# Altium footprint library connectors.PcbLib: 143 footprints (part 6 of 9)
Each footprint in its own frame and in the unit in brackets; x right, y up, seen from the top. Pads: shape width x height; smd on the part's side, far side on the other; paste and mask are expansions set on the pad; w line width, h text height; cw(c..) or ccw(c..) is an arc to the next point about the centre after c.
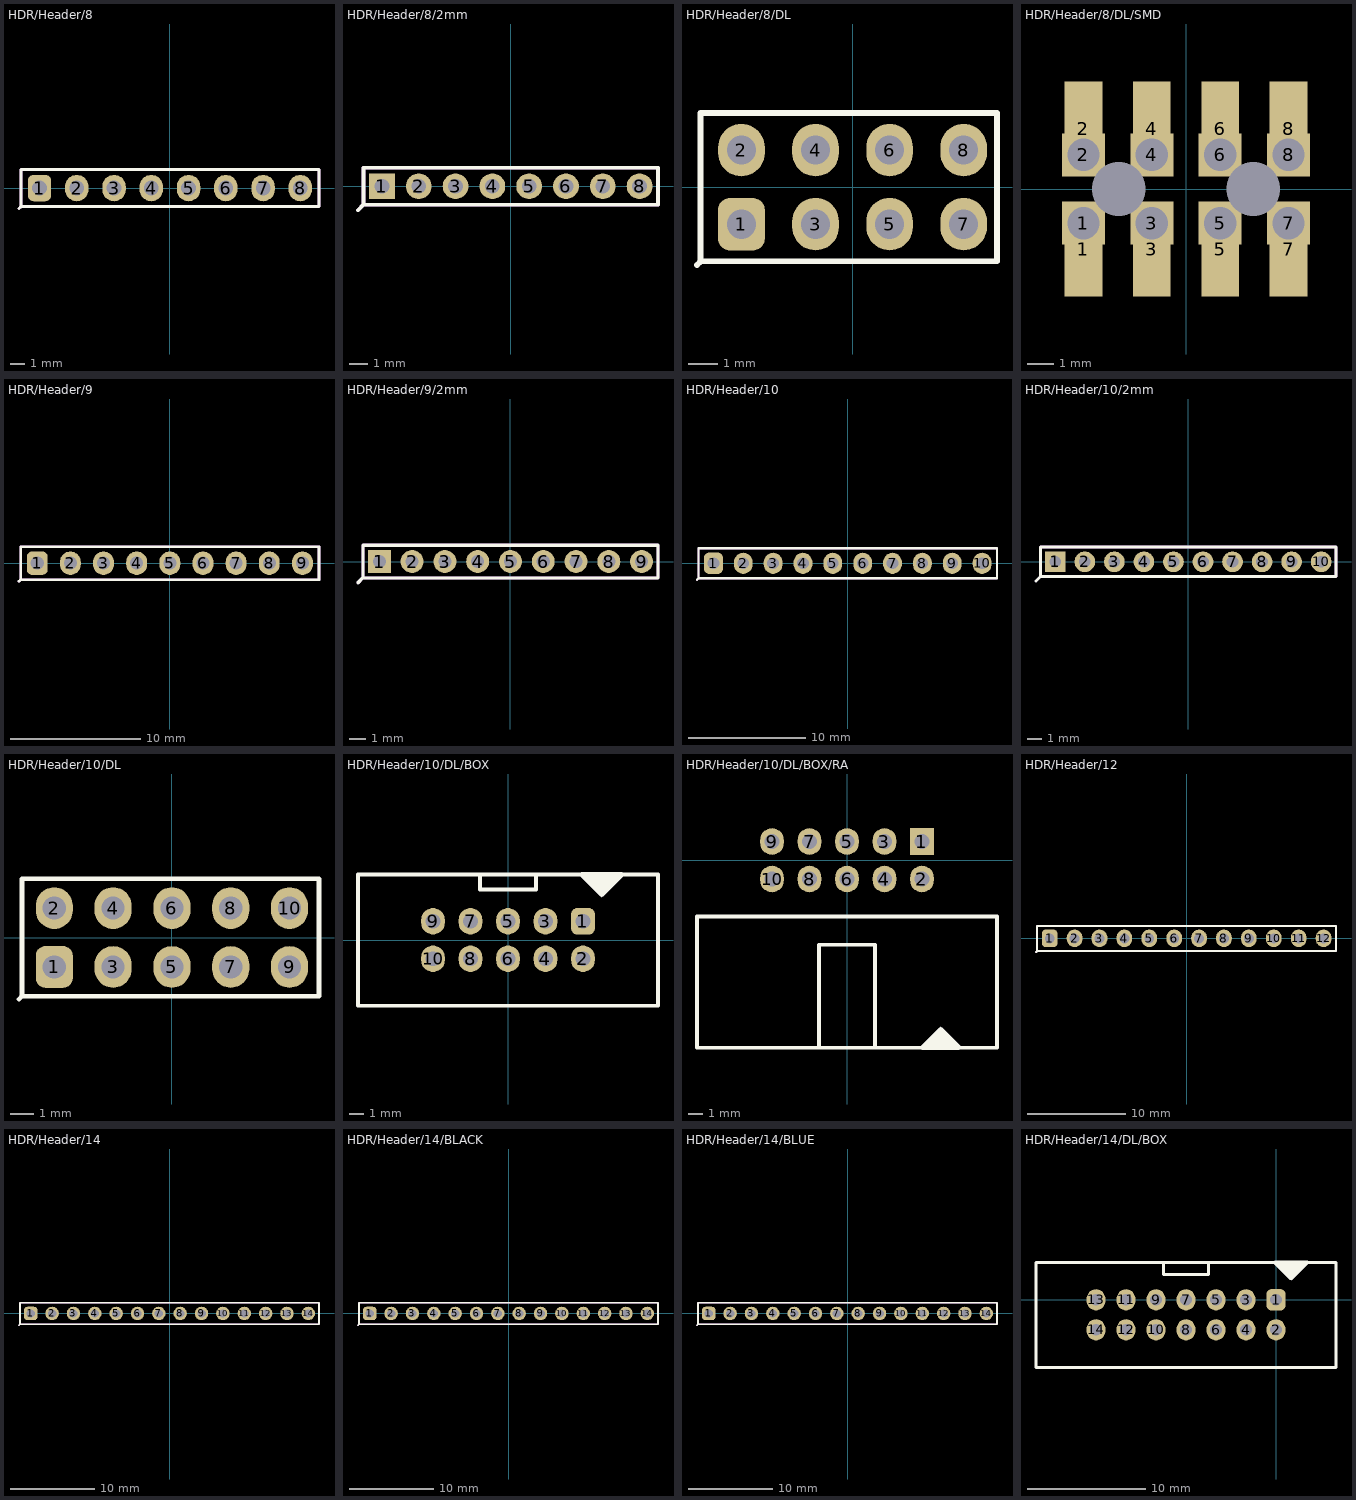
[diagram p5: the footprints below, top view; thin cyan lines are the x and y axes]

## HDR/Header/8 [mm]
pads (8):
  rrect50% 1.6x1.8 hole 1: 1(-8.89,0)
  oval 1.6x1.8 hole 1: 2(-6.35,0) 3(-3.81,0) 4(-1.27,0) 5(1.27,0) 6(3.81,0) 7(6.35,0) 8(8.89,0)
Top Overlay:
  lines w0.203: -10.287,-1.397 -10.16,-1.27 ; -10.16,-1.27 -10.16,1.27 10.16,1.27 10.16,-1.27 -10.16,-1.27
Mechanical 1:
  lines w0.203: -10.287,-1.397 -10.16,-1.27 ; -10.16,-1.27 -10.16,1.27 10.16,1.27 10.16,-1.27 -10.16,-1.27
3D body "Samtec Header 4pin 2.54mm.STEP": height 8.89, standoff -2.03, extent -10.16,-1.27 0,1.27
3D body "Samtec Header 4pin 2.54mm.STEP": height 8.89, standoff -2.03, extent 0,-1.27 10.16,1.27

## HDR/Header/8/2mm [mm]
pads (8):
  rect 1.4x1.4 hole 0.8: 1(-7,0)
  round 1.4 hole 0.8: 2(-5,0) 3(-3,0) 4(-1,0) 5(1,0) 6(3,0) 7(5,0) 8(7,0)
Top Overlay:
  lines w0.203: -8.3,-1.3 -8,-1 ; -8,-1 -8,1 8,1 8,-1 -8,-1
Mechanical 1:
  lines w0.203: -8.3,-1.3 -8,-1 ; -8,-1 -8,1 8,1 8,-1 -8,-1
3D body "pin_header_a-sl200-eg-g08d.stp": height 6, standoff -2.8, extent -7.975,-1 7.975,1

## HDR/Header/8/DL [mm]
pads (8):
  rrect50% 1.6x1.8 hole 1: 1(-3.81,-1.27)
  oval 1.6x1.8 hole 1: 2(-3.81,1.27) 3(-1.27,-1.27) 4(-1.27,1.27) 5(1.27,-1.27) 6(1.27,1.27) 7(3.81,-1.27) 8(3.81,1.27)
Top Overlay:
  lines w0.203: -5.334,-2.667 -5.207,-2.54 ; -5.207,-2.54 4.953,-2.54 4.953,2.54 -5.207,2.54 -5.207,-2.54
3D body "Samtec Header 4pin 2.54mm.STEP": height 8.89, standoff -2.03, extent -5.08,-2.54 5.08,0
3D body "Samtec Header 4pin 2.54mm.STEP": height 8.89, standoff -2.03, extent -5.08,0 5.08,2.54

## HDR/Header/8/DL/SMD [mm]
pads (18):
  rect 1.4x3.53 smd: 1(-3.81,-2.235) 2(-3.81,2.235) 3(-1.27,-2.235) 4(-1.27,2.235) 5(1.27,-2.235) 6(1.27,2.235) 7(3.81,-2.235) 8(3.81,2.235)
  rect 1.6x1.6 hole 1.2: 1(-3.81,-1.27) 2(-3.81,1.27) 3(-1.27,-1.27) 4(-1.27,1.27) 5(1.27,-1.27) 6(1.27,1.27) 7(3.81,-1.27) 8(3.81,1.27)
  round 0 hole 2 unplated: HOLE(-2.5,0) HOLE(2.5,0)
3D body "Header4x2.STEP": height 8.5, standoff 0, extent -5.28,-2.5 5.28,2.5

## HDR/Header/9 [mm]
pads (9):
  rrect50% 1.6x1.8 hole 1: 1(-10.16,0)
  oval 1.6x1.8 hole 1: 2(-7.62,0) 3(-5.08,0) 4(-2.54,0) 5(0,0) 6(2.54,0) 7(5.08,0) 8(7.62,0) 9(10.16,0)
Top Overlay:
  lines w0.203: -11.557,-1.397 -11.43,-1.27 ; -11.43,-1.27 -11.43,1.27 11.43,1.27 11.43,-1.27 -11.43,-1.27
Mechanical 1:
  lines w0.203: -11.557,-1.397 -11.43,-1.27 ; -11.43,-1.27 -11.43,1.27 11.43,1.27 11.43,-1.27 -11.43,-1.27
3D body "Samtec Header 3pin 2.54mm.STEP": height 8.89, standoff -2.03, extent 3.81,-1.27 11.43,1.27
3D body "Samtec Header 3pin 2.54mm.STEP": height 8.89, standoff -2.03, extent -3.81,-1.27 3.81,1.27
3D body "Samtec Header 3pin 2.54mm.STEP": height 8.89, standoff -2.03, extent -11.43,-1.27 -3.81,1.27

## HDR/Header/9/2mm [mm]
pads (9):
  rect 1.4x1.4 hole 0.8: 1(-8,0)
  round 1.4 hole 0.8: 2(-6,0) 3(-4,0) 4(-2,0) 5(0,0) 6(2,0) 7(4,0) 8(6,0) 9(8,0)
Top Overlay:
  lines w0.203: -9.3,-1.3 -9,-1 ; -9,-1 -9,1 9,1 9,-1 -9,-1
Mechanical 1:
  lines w0.203: -9.3,-1.3 -9,-1 ; -9,-1 -9,1 9,1 9,-1 -9,-1
3D body "pin_header_a-sl200-eg-g09d.stp": height 6, standoff -2.8, extent -8.975,-1 8.975,1

## HDR/Header/10 [mm]
pads (10):
  rrect50% 1.6x1.8 hole 1: 1(-11.43,0)
  oval 1.6x1.8 hole 1: 2(-8.89,0) 3(-6.35,0) 4(-3.81,0) 5(-1.27,0) 6(1.27,0) 7(3.81,0) 8(6.35,0) 9(8.89,0) 10(11.43,0)
Top Overlay:
  lines w0.203: -12.827,-1.397 -12.7,-1.27 ; -12.7,-1.27 -12.7,1.27 12.7,1.27 12.7,-1.27 -12.67,-1.27 -12.7,-1.27
Mechanical 1:
  lines w0.203: -12.827,-1.397 -12.7,-1.27 ; -12.7,-1.27 -12.7,1.27 12.7,1.27 12.7,-1.27 -12.67,-1.27 -12.7,-1.27
3D body "Samtec Header 2pin 2.54mm.STEP": height 8.89, standoff -2.03, extent -12.7,-1.27 -7.62,1.27
3D body "Samtec Header 3pin 2.54mm.STEP": height 8.89, standoff -2.03, extent -7.62,-1.27 0,1.27
3D body "Samtec Header 2pin 2.54mm.STEP": height 8.89, standoff -2.03, extent 0,-1.27 5.08,1.27
3D body "Samtec Header 3pin 2.54mm.STEP": height 8.89, standoff -2.03, extent 5.08,-1.27 12.7,1.27

## HDR/Header/10/2mm [mm]
pads (10):
  rect 1.4x1.4 hole 0.8: 1(-9,0)
  round 1.4 hole 0.8: 2(-7,0) 3(-5,0) 4(-3,0) 5(-1,0) 6(1,0) 7(3,0) 8(5,0) 9(7,0) 10(9,0)
Top Overlay:
  lines w0.203: -10.3,-1.3 -10,-1 ; -10,-1 10,-1 10,1 -10,1 -10,-1
Mechanical 1:
  lines w0.203: -10.3,-1.3 -10,-1 ; -10,-1 10,-1 10,1 -10,1 -10,-1
3D body "pin_header_a-sl200-eg-g10d.stp": height 6, standoff -2.8, extent -9.975,-1 9.975,1

## HDR/Header/10/DL [mm]
pads (10):
  rrect50% 1.6x1.8 hole 1: 1(-5.08,-1.27)
  oval 1.6x1.8 hole 1: 2(-5.08,1.27) 3(-2.54,-1.27) 4(-2.54,1.27) 5(0,-1.27) 6(0,1.27) 7(2.54,-1.27) 8(2.54,1.27) 9(5.08,-1.27) 10(5.08,1.27)
Top Overlay:
  lines w0.203: -6.604,-2.667 -6.477,-2.54 ; -6.477,-2.54 6.35,-2.54 6.35,2.54 -6.477,2.54 -6.477,-2.54
3D body "Samtec Header 2pin 2.54mm.STEP": height 8.89, standoff -2.03, extent 3.81,-2.54 6.35,2.54
3D body "Samtec Header 2pin 2.54mm.STEP": height 8.89, standoff -2.03, extent 1.27,-2.54 3.81,2.54
3D body "Samtec Header 2pin 2.54mm.STEP": height 8.89, standoff -2.03, extent -1.27,-2.54 1.27,2.54
3D body "Samtec Header 2pin 2.54mm.STEP": height 8.89, standoff -2.03, extent -3.81,-2.54 -1.27,2.54
3D body "Samtec Header 2pin 2.54mm.STEP": height 8.89, standoff -2.03, extent -6.35,-2.54 -3.81,2.54

## HDR/Header/10/DL/BOX [mm] "10 pins Male Box Header, IDC Socket"
pads (10):
  rrect50% 1.6x1.8 hole 1: 1(5.08,1.27)
  oval 1.6x1.8 hole 1: 2(5.08,-1.27) 3(2.54,1.27) 4(2.54,-1.27) 5(0,1.27) 6(0,-1.27) 7(-2.54,1.27) 8(-2.54,-1.27) 9(-5.08,1.27) 10(-5.08,-1.27)
Top Overlay:
  region: 7.844,4.542 7.884,4.445 7.844,4.348 6.447,2.951 6.35,2.911 6.253,2.951 4.856,4.348 4.816,4.445 4.856,4.542 4.953,4.582 7.747,4.582
  lines w0.254: -1.905,4.445 -1.905,3.429 1.905,3.429 1.905,4.445 ; -10.16,-4.445 -10.16,4.445 10.16,4.445 10.16,-4.445 -10.16,-4.445
3D body "Samtec-TST-105-01-G-D.step": height 9.27, standoff -2.92, extent -10.16,-4.813 10.16,4.661

## HDR/Header/10/DL/BOX/RA [mm] "10 pins Male Box Header right angle, IDC Socket"
pads (10):
  rect 1.6x1.8 hole 1: 1(5.08,1.27)
  oval 1.6x1.8 hole 1: 2(5.08,-1.27) 3(2.54,1.27) 4(2.54,-1.27) 5(0,1.27) 6(0,-1.27) 7(-2.54,1.27) 8(-2.54,-1.27) 9(-5.08,1.27) 10(-5.08,-1.27)
Top Overlay:
  region: 6.447,-11.333 7.717,-12.603 7.757,-12.7 7.717,-12.797 7.62,-12.837 5.08,-12.837 4.983,-12.797 4.943,-12.7 4.971,-12.631 4.983,-12.603 6.253,-11.333 6.35,-11.293
  lines w0.254: -1.905,-12.7 -1.905,-5.715 1.905,-5.715 1.905,-12.7 ; -10.16,-12.7 -10.16,-3.81 10.16,-3.81 10.16,-12.7 -10.16,-12.7

## HDR/Header/12 [mm]
pads (12):
  rrect50% 1.6x1.8 hole 1: 1(-13.97,0)
  oval 1.6x1.8 hole 1: 2(-11.43,0) 3(-8.89,0) 4(-6.35,0) 5(-3.81,0) 6(-1.27,0) 7(1.27,0) 8(3.81,0) 9(6.35,0) 10(8.89,0) 11(11.43,0) 12(13.97,0)
Top Overlay:
  lines w0.203: -15.367,-1.397 -15.24,-1.27 ; -15.24,-1.27 15.24,-1.27 15.24,1.27 -15.24,1.27 -15.24,-1.27
Mechanical 1:
  lines w0.203: -15.367,-1.397 -15.24,-1.27 ; -15.24,-1.27 15.24,-1.27 15.24,1.27 -15.24,1.27 -15.24,-1.27
3D body "Samtec Header 2pin 2.54mm.STEP": height 8.89, standoff -2.03, extent -15.24,-1.27 -10.16,1.27
3D body "Samtec Header 3pin 2.54mm.STEP": height 8.89, standoff -2.03, extent -10.16,-1.27 -2.54,1.27
3D body "Samtec Header 2pin 2.54mm.STEP": height 8.89, standoff -2.03, extent -2.54,-1.27 2.54,1.27
3D body "Samtec Header 3pin 2.54mm.STEP": height 8.89, standoff -2.03, extent 2.54,-1.27 10.16,1.27
3D body "Samtec Header 2pin 2.54mm.STEP": height 8.89, standoff -2.03, extent 10.16,-1.27 15.24,1.27

## HDR/Header/14 [mm]
pads (14):
  rrect50% 1.6x1.6 hole 1: 1(-16.51,0)
  round 1.6 hole 1: 2(-13.97,0) 3(-11.43,0) 4(-8.89,0) 5(-6.35,0) 6(-3.81,0) 7(-1.27,0) 8(1.27,0) 9(3.81,0) 10(6.35,0) 11(8.89,0) 12(11.43,0) 13(13.97,0) 14(16.51,0)
Top Overlay:
  lines w0.203: -17.907,-1.397 -17.78,-1.27 ; -17.78,-1.27 -17.78,1.27 17.78,1.27 17.78,-1.27 -17.78,-1.27
Mechanical 1:
  lines w0.203: -17.907,-1.397 -17.78,-1.27 ; -17.78,-1.27 17.78,-1.27 17.78,1.27 -17.78,1.27 -17.78,-1.27
3D body "Samtec Header 2pin 2.54mm.STEP": height 8.89, standoff -2.03, extent 12.7,-1.27 17.78,1.27
3D body "Samtec Header 2pin 2.54mm.STEP": height 8.89, standoff -2.03, extent -17.78,-1.27 -12.7,1.27
3D body "Samtec Header 3pin 2.54mm.STEP": height 8.89, standoff -2.03, extent -12.7,-1.27 -5.08,1.27
3D body "Samtec Header 2pin 2.54mm.STEP": height 8.89, standoff -2.03, extent -5.08,-1.27 0,1.27
3D body "Samtec Header 3pin 2.54mm.STEP": height 8.89, standoff -2.03, extent 0,-1.27 7.62,1.27
3D body "Samtec Header 2pin 2.54mm.STEP": height 8.89, standoff -2.03, extent 7.62,-1.27 12.7,1.27

## HDR/Header/14/BLACK [mm]
pads (14):
  rrect50% 1.6x1.6 hole 1: 1(-16.51,0)
  round 1.6 hole 1: 2(-13.97,0) 3(-11.43,0) 4(-8.89,0) 5(-6.35,0) 6(-3.81,0) 7(-1.27,0) 8(1.27,0) 9(3.81,0) 10(6.35,0) 11(8.89,0) 12(11.43,0) 13(13.97,0) 14(16.51,0)
Top Overlay:
  lines w0.203: -17.907,-1.397 -17.78,-1.27 ; -17.78,-1.27 17.78,-1.27 17.78,1.27 -17.78,1.27 -17.78,-1.27
Mechanical 1:
  lines w0.203: -17.907,-1.397 -17.78,-1.27 ; -17.78,-1.27 -17.78,1.27 17.78,1.27 17.78,-1.27 -17.78,-1.27
3D body "HEADER 2x1 Pitch 2_54 BLACK.STEP": height 8.38, standoff -2.92, extent -2.54,-1.27 2.54,1.27
3D body "HEADER 2x1 Pitch 2_54 BLACK.STEP": height 8.38, standoff -2.92, extent 2.54,-1.27 7.62,1.27
3D body "HEADER 2x1 Pitch 2_54 BLACK.STEP": height 8.38, standoff -2.92, extent 7.62,-1.27 12.7,1.27
3D body "HEADER 2x1 Pitch 2_54 BLACK.STEP": height 8.38, standoff -2.92, extent 12.7,-1.27 17.78,1.27
3D body "HEADER 2x1 Pitch 2_54 BLACK.STEP": height 8.38, standoff -2.92, extent -7.62,-1.27 -2.54,1.27
3D body "HEADER 2x1 Pitch 2_54 BLACK.STEP": height 8.38, standoff -2.92, extent -12.7,-1.27 -7.62,1.27
3D body "HEADER 2x1 Pitch 2_54 BLACK.STEP": height 8.38, standoff -2.92, extent -17.78,-1.27 -12.7,1.27

## HDR/Header/14/BLUE [mm]
pads (14):
  rrect50% 1.6x1.6 hole 1: 1(-16.51,0)
  round 1.6 hole 1: 2(-13.97,0) 3(-11.43,0) 4(-8.89,0) 5(-6.35,0) 6(-3.81,0) 7(-1.27,0) 8(1.27,0) 9(3.81,0) 10(6.35,0) 11(8.89,0) 12(11.43,0) 13(13.97,0) 14(16.51,0)
Top Overlay:
  lines w0.203: -17.907,-1.397 -17.78,-1.27 ; -17.78,-1.27 17.78,-1.27 17.78,1.27 -17.78,1.27 -17.78,-1.27
Mechanical 1:
  lines w0.203: -17.907,-1.397 -17.78,-1.27 ; -17.78,-1.27 -17.78,1.27 17.78,1.27 17.78,-1.27 -17.78,-1.27
3D body "HEADER 2x1 Pitch 2_54 BLUE.STEP": height 8.38, standoff -2.92, extent -2.54,-1.27 2.54,1.27
3D body "HEADER 2x1 Pitch 2_54 BLUE.STEP": height 8.38, standoff -2.92, extent -7.62,-1.27 -2.54,1.27
3D body "HEADER 2x1 Pitch 2_54 BLUE.STEP": height 8.38, standoff -2.92, extent -12.7,-1.27 -7.62,1.27
3D body "HEADER 2x1 Pitch 2_54 BLUE.STEP": height 8.38, standoff -2.92, extent -17.78,-1.27 -12.7,1.27
3D body "HEADER 2x1 Pitch 2_54 BLUE.STEP": height 8.38, standoff -2.92, extent 2.54,-1.27 7.62,1.27
3D body "HEADER 2x1 Pitch 2_54 BLUE.STEP": height 8.38, standoff -2.92, extent 7.62,-1.27 12.7,1.27
3D body "HEADER 2x1 Pitch 2_54 BLUE.STEP": height 8.38, standoff -2.92, extent 12.7,-1.27 17.78,1.27

## HDR/Header/14/DL/BOX [mm] "14 pins Male Box Header, IDC Socket"
pads (14):
  rrect50% 1.6x1.8 hole 1: 1(0,0)
  oval 1.6x1.8 hole 1: 2(0,-2.54) 3(-2.54,0) 4(-2.54,-2.54) 5(-5.08,0) 6(-5.08,-2.54) 7(-7.62,0) 8(-7.62,-2.54) 9(-10.16,0) 10(-10.16,-2.54) 11(-12.7,0) 12(-12.7,-2.54) 13(-15.24,0) 14(-15.24,-2.54)
Top Overlay:
  region: 2.764,3.272 2.804,3.175 2.764,3.078 1.367,1.681 1.27,1.641 1.173,1.681 -0.224,3.078 -0.264,3.175 -0.224,3.272 -0.127,3.312 2.667,3.312
  lines w0.254: -9.525,3.175 -9.525,2.159 -5.715,2.159 -5.715,3.175 ; -20.32,-5.715 5.08,-5.715 5.08,3.175 -20.32,3.175 -20.32,-5.715
3D body "User Library-IDC-14M.STEP": height 9.3, standoff -3.1, extent -20.31,-5.969 5.07,3.131